# Altium schematic symbol library Resistors.SchLib: 7 symbols
Pins are listed as number, name and electrical type; pins without a type are passive.

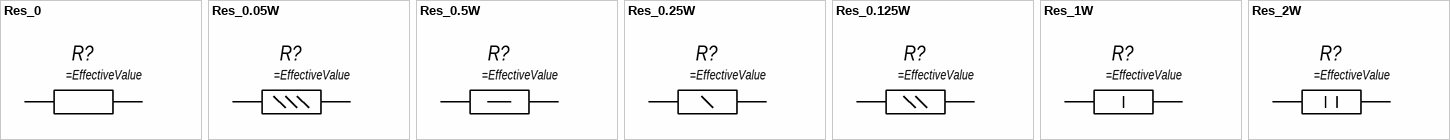
[diagram p0: symbols Res_0 to Res_2W]

## Res_0
designator R?
=ValueDescription
pins: 1, 2

## Res_0.05W
designator R?
=ValueDescription
pins: 1, 2

## Res_0.5W
designator R?
pins: 1, 2

## Res_0.25W
designator R?
pins: 1, 2

## Res_0.125W
designator R?
=ValueDescription
pins: 1, 2

## Res_1W
designator R?
pins: 1, 2

## Res_2W
designator R?
pins: 1, 2